# Altium schematic symbol library Switch.SchLib: 6 symbols
Pins are listed as number, name and electrical type; pins without a type are passive.

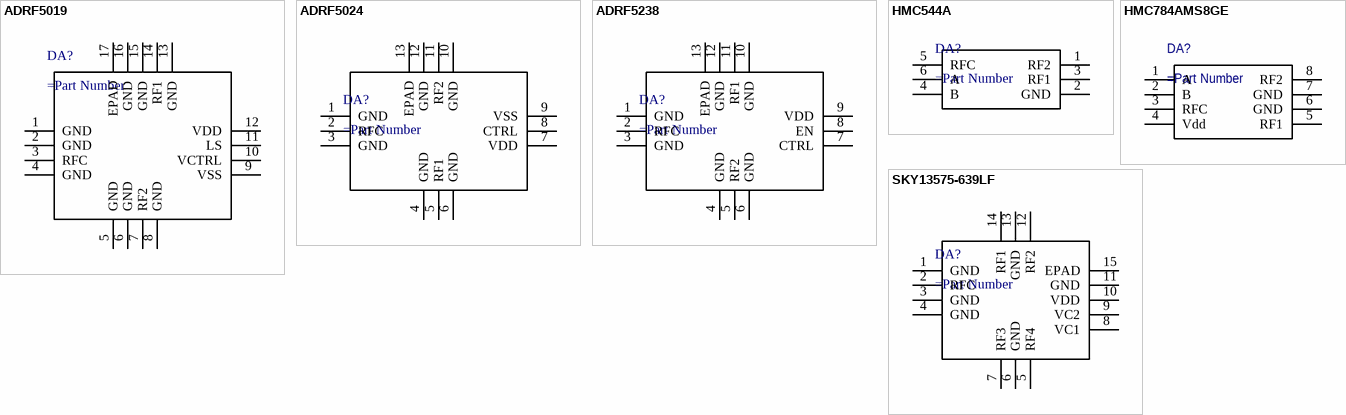
[diagram p0: symbols ADRF5019 to SKY13575-639LF]

## ADRF5019
designator DA?
pins: 1 GND, 2 GND, 3 RFC, 4 GND, 5 GND (power), 6 GND (power), 7 RF2, 8 GND (power), 9 VSS, 10 VCTRL, 11 LS, 12 VDD, 13 GND, 14 RF1, 15 GND, 16 GND, 17 EPAD

## ADRF5024
designator DA?
pins: 1 GND, 2 RFC, 3 GND, 4 GND, 5 RF1, 6 GND, 7 VDD, 8 CTRL, 9 VSS, 10 GND, 11 RF2, 12 GND, 13 EPAD

## ADRF5238
designator DA?
pins: 1 GND, 2 RFC, 3 GND, 4 GND, 5 RF2, 6 GND, 7 CTRL, 8 EN, 9 VDD, 10 GND, 11 RF1, 12 GND, 13 EPAD

## HMC544A
designator DA?
pins: 1 RF2, 2 GND, 3 RF1, 4 B, 5 RFC, 6 A

## HMC784AMS8GE
designator DA?
pins: 1 A, 2 B, 3 RFC, 4 Vdd, 5 RF1, 6 GND, 7 GND, 8 RF2

## SKY13575-639LF
designator DA?
pins: 1 GND, 2 RFC, 3 GND, 4 GND, 5 RF4, 6 GND, 7 RF3, 8 VC1, 9 VC2, 10 VDD, 11 GND, 12 RF2, 13 GND, 14 RF1, 15 EPAD